# Altium footprint library WS-SLTV.PcbLib: 2 footprints
Each footprint in its own frame and in the unit in brackets; x right, y up, seen from the top. Pads: shape width x height; smd on the part's side, far side on the other; paste and mask are expansions set on the pad; w line width, h text height; cw(c..) or ccw(c..) is an arc to the next point about the centre after c.
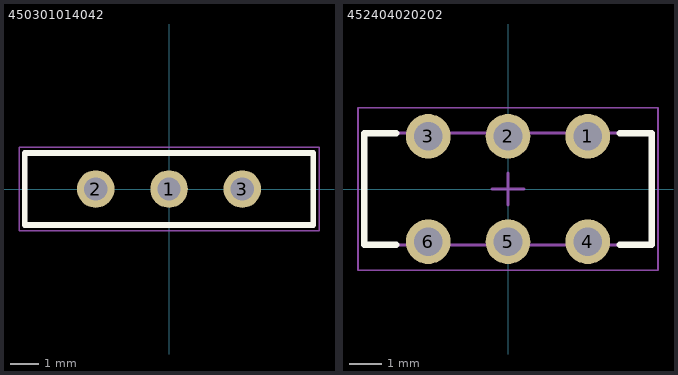
[diagram p0: the footprints below, top view; thin cyan lines are the x and y axes]

## 450301014042 [mm] "THT Mini Slide Switch, body 10x2.5mm"
height 6.4
pads (3):
  round 1.3 hole 0.8: 1(0,0) 2(-2.54,0) 3(2.54,0)
Top Overlay:
  lines w0.2: -5,-1.25 5,-1.25 5,1.25 -5,1.25 -5,-1.25
Top Assembly:
  lines w0.1: -5,-1.25 5,-1.25 5,1.25 -5,1.25 -5,-1.25
Top Designator:
  text ".Designator" at -3.647,-0.357 h1
Top 3D Body:
  lines w0.1: -5,-1.25 5,-1.25 5,1.25 -5,1.25 -5,-1.25
Top Courtyard:
  lines w0.05: -5.2,-1.45 5.2,-1.45 5.2,1.45 -5.2,1.45 -5.2,-1.45
Top Component Center:
  lines w0.1: -0.5,0 0.5,0 ; 0,-0.5 0,0.5
3D body "450301014042.stp": height 6.43, standoff -4.97, extent -5,-1.25 5,1.25

## 452404020202 [mm] "THT Mini Slide Switch, body 9x3.5mm"
height 5.5
pads (6):
  round 1.4 hole 0.9: 1(2.5,1.65) 2(0,1.65) 3(-2.5,1.65) 4(2.5,-1.65) 5(0,-1.65) 6(-2.5,-1.65)
Top Overlay:
  lines w0.2: -3.5,-1.75 -4.5,-1.75 -4.5,1.75 -3.5,1.75 ; 3.5,-1.75 4.5,-1.75 4.5,1.75 3.5,1.75
Top Assembly:
  lines w0.1: -4.5,-1.75 4.5,-1.75 4.5,1.75 -4.5,1.75 -4.5,-1.75
Top Designator:
  text ".Designator" at -3.647,-0.357 h1
Top 3D Body:
  lines w0.1: -4.5,-1.75 4.5,-1.75 4.5,1.75 -4.5,1.75 -4.5,-1.75
Top Courtyard:
  lines w0.05: -4.7,-2.55 -4.7,2.55 4.7,2.55 4.7,-2.55 -4.7,-2.55
Top Component Center:
  lines w0.1: -0.5,0 0.5,0 ; 0,-0.5 0,0.5
3D body "452404020202.stp": height 5.55, standoff -2.95, extent -4.5,-1.85 4.5,1.75